# EAGLE library part BALUN_2450_MHZ (library sapphire)
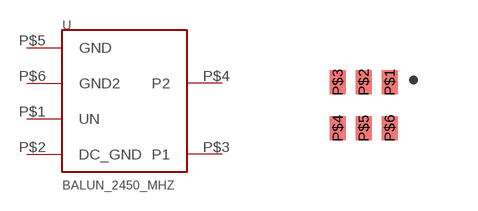
[diagram p7: symbol with the pads of BALUN_0805; footprint BALUN_0805]

Designator prefix -

## BALUN_2450_MHZ  [BALUN_0805]
P$1  UN
P$2  DC_GND
P$3  P1
P$4  P2
P$5  GND
P$6  GND2

## Footprint BALUN_0805 (pad centres in mm)
smd 0.4 x 0.6: P$1 1.65,1.2; P$2 1,1.2; P$3 0.35,1.2; P$4 0.35,0.05; P$5 1,0.05; P$6 1.65,0.05